# Altium footprint library Jump_254.PcbLib: 184 footprints (part 7 of 12)
Each footprint in its own frame and in the unit in brackets; x right, y up, seen from the top. Pads: shape width x height; smd on the part's side, far side on the other; paste and mask are expansions set on the pad; w line width, h text height; cw(c..) or ccw(c..) is an arc to the next point about the centre after c.
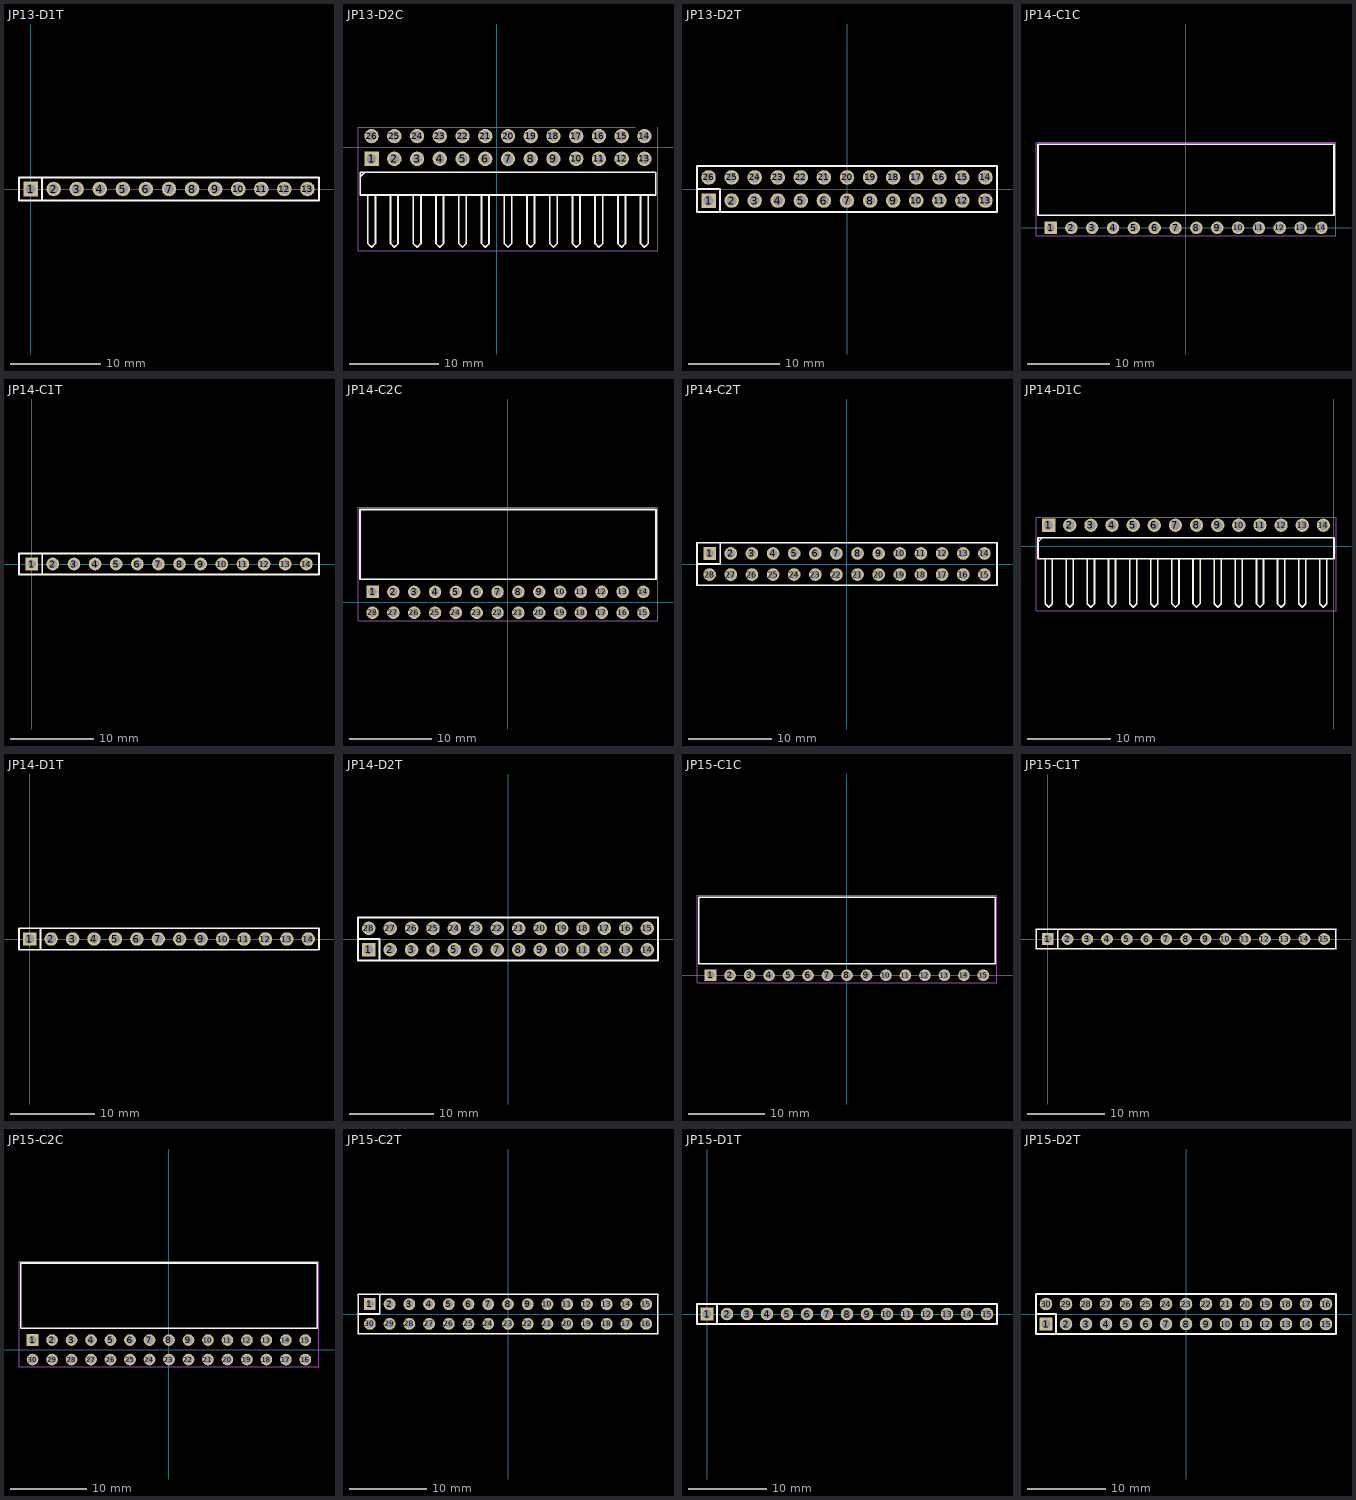
[diagram p6: the footprints below, top view; thin cyan lines are the x and y axes]

## JP13-D1T [mm] "13 pins, 1 row, straight, gold plating"
height 8.54
pads (13):
  rect 1.6x1.6 hole 1.1: 1(0,0)
  round 1.6 hole 1.1: 2(2.54,0) 3(5.08,0) 4(7.62,0) 5(10.16,0) 6(12.7,0) 7(15.24,0) 8(17.78,0) 9(20.32,0) 10(22.86,0) 11(25.4,0) 12(27.94,0) 13(30.48,0)
Top Overlay:
  lines w0.2: 1.27,-1.27 1.27,1.27 ; -1.27,-1.27 -1.27,1.27 0.635,1.27 31.75,1.27 31.75,-1.27 -1.27,-1.27
3D body "61301311121.stp": height 8.54, standoff -3, extent -1.27,-1.27 31.75,1.27

## JP13-D2C [mm] "26 pins, dual row, right angled, gold plating"
height 5.08
pads (26):
  rect 1.6x1.6 hole 1.1: 1(-13.97,-1.27)
  round 1.6 hole 1.1: 2(-11.43,-1.27) 3(-8.89,-1.27) 4(-6.35,-1.27) 5(-3.81,-1.27) 6(-1.27,-1.27) 7(1.27,-1.27) 8(3.81,-1.27) 9(6.35,-1.27) 10(8.89,-1.27) 11(11.43,-1.27) 12(13.97,-1.27) 13(16.51,-1.27) 14(16.51,1.27) 15(13.97,1.27) 16(11.43,1.27) 17(8.89,1.27) 18(6.35,1.27) 19(3.81,1.27) 20(1.27,1.27) 21(-1.27,1.27) 22(-3.81,1.27) 23(-6.35,1.27) 24(-8.89,1.27) 25(-11.43,1.27) 26(-13.97,1.27)
Top Overlay:
  lines w0.2: -15.198,-3.236 -14.774,-2.812 ; -14.393,-5.335 -14.393,-10.729 -13.97,-11.152 -13.547,-10.729 -13.547,-5.31 ; -11.853,-5.335 -11.853,-10.729 -11.43,-11.152 -11.007,-10.729 -11.007,-5.335 ; -9.313,-5.335 -9.313,-10.729 -8.89,-11.152 -8.467,-10.729 -8.467,-5.31 ; -6.773,-5.335 -6.773,-10.729 -6.35,-11.152 -5.927,-10.729 -5.927,-5.335 ; -4.233,-5.335 -4.233,-10.729 -3.81,-11.152 -3.387,-10.729 -3.387,-5.31 ; -1.693,-5.335 -1.693,-10.729 -1.27,-11.152 -0.847,-10.729 -0.847,-5.335 ; 0.847,-5.335 0.847,-10.729 1.27,-11.152 1.693,-10.729 1.693,-5.31 ; 3.387,-5.335 3.387,-10.729 3.81,-11.152 4.233,-10.729 4.233,-5.335 ; 5.927,-5.335 5.927,-10.729 6.35,-11.152 6.773,-10.729 6.773,-5.31 ; 8.467,-5.335 8.467,-10.729 8.89,-11.152 9.313,-10.729 9.313,-5.335 ; 11.007,-5.335 11.007,-10.729 11.43,-11.152 11.853,-10.729 11.853,-5.31 ; 13.547,-5.335 13.547,-10.729 13.97,-11.152 14.393,-10.729 14.393,-5.31 ; 16.087,-5.335 16.087,-10.729 16.51,-11.152 16.933,-10.729 16.933,-5.335 ; -15.24,-5.31 17.78,-5.31 17.78,-2.77 -15.24,-2.77 -15.24,-5.31
Mechanical 15:
  lines w0.1: 15.49,2.27 -15.49,2.27 -15.49,-11.55 18.03,-11.55 18.03,2.27
3D body "61302621021.stp": height 5.09, standoff -2.99, extent -15.26,-11.295 17.76,1.605

## JP13-D2T [mm] "26 pins, dual pin, straight, gold plating"
height 8.54
pads (26):
  rect 1.6x1.6 hole 1.1: 1(-15.24,-1.27)
  round 1.6 hole 1.1: 2(-12.7,-1.27) 3(-10.16,-1.27) 4(-7.62,-1.27) 5(-5.08,-1.27) 6(-2.54,-1.27) 7(0,-1.27) 8(2.54,-1.27) 9(5.08,-1.27) 10(7.62,-1.27) 11(10.16,-1.27) 12(12.7,-1.27) 13(15.24,-1.27) 14(15.24,1.27) 15(12.7,1.27) 16(10.16,1.27) 17(7.62,1.27) 18(5.08,1.27) 19(2.54,1.27) 20(0,1.27) 21(-2.54,1.27) 22(-5.08,1.27) 23(-7.62,1.27) 24(-10.16,1.27) 25(-12.7,1.27) 26(-15.24,1.27)
Top Overlay:
  lines w0.2: -16.51,0 -13.97,0 -13.97,-2.54 ; -16.51,-2.54 16.51,-2.54 16.51,2.54 -16.51,2.54 -16.51,-2.54
3D body "61302621121.stp": height 8.55, standoff -2.99, extent -16.51,-2.54 16.51,2.54

## JP14-C1C [mm] "14p 1 row Right angle"
height 2.5
pads (14):
  rect 1.52x1.52 hole 1.02: 1(-16.51,0)
  round 1.52 hole 1.02: 2(-13.97,0) 3(-11.43,0) 4(-8.89,0) 5(-6.35,0) 6(-3.81,0) 7(-1.27,0) 8(1.27,0) 9(3.81,0) 10(6.35,0) 11(8.89,0) 12(11.43,0) 13(13.97,0) 14(16.51,0)
Top Overlay:
  lines w0.2: -18.034,1.524 -18.034,10.173 18.034,10.173 18.034,1.524 -18.034,1.524
Mechanical 15:
  lines w0.1: -18.28,-0.96 -18.28,10.423 18.284,10.423 18.284,-0.96 -18.28,-0.96
3D body "613014143121.stp": height 2.51, standoff -3.08, extent -18.03,-0.208 18.03,10.092

## JP14-C1T [mm] "14 row, straight, gold plating"
height 8.5
pads (14):
  rect 1.52x1.52 hole 1.02: 1(0,0)
  round 1.52 hole 1.02: 2(2.54,0) 3(5.08,0) 4(7.62,0) 5(10.16,0) 6(12.7,0) 7(15.24,0) 8(17.78,0) 9(20.32,0) 10(22.86,0) 11(25.4,0) 12(27.94,0) 13(30.48,0) 14(33.02,0)
Top Overlay:
  lines w0.2: 1.27,-1.27 1.27,1.27 ; -1.52,-1.27 -1.52,1.27 0.635,1.27 34.54,1.27 34.54,-1.27 -1.52,-1.27
3D body "61301411821.stp": height 8.51, standoff -3.09, extent -1.52,-1.25 34.54,1.25

## JP14-C2C [mm] "28p 2 rows Right angle"
height 5.08
pads (28):
  rect 1.52x1.52 hole 1.02: 1(-16.51,1.27)
  round 1.52 hole 1.02: 2(-13.97,1.27) 3(-11.43,1.27) 4(-8.89,1.27) 5(-6.35,1.27) 6(-3.81,1.27) 7(-1.27,1.27) 8(1.27,1.27) 9(3.81,1.27) 10(6.35,1.27) 11(8.89,1.27) 12(11.43,1.27) 13(13.97,1.27) 14(16.51,1.27) 15(16.51,-1.27) 16(13.97,-1.27) 17(11.43,-1.27) 18(8.89,-1.27) 19(6.35,-1.27) 20(3.81,-1.27) 21(1.27,-1.27) 22(-1.27,-1.27) 23(-3.81,-1.27) 24(-6.35,-1.27) 25(-8.89,-1.27) 26(-11.43,-1.27) 27(-13.97,-1.27) 28(-16.51,-1.27)
Top Overlay:
  lines w0.2: -18.034,2.794 -18.034,11.316 18.034,11.316 18.034,2.794 -18.034,2.794
Mechanical 15:
  lines w0.1: -18.28,-2.23 -18.28,11.566 18.284,11.566 18.284,-2.23 -18.28,-2.23
3D body "613028243121.stp": height 5.09, standoff -4.46, extent -18.03,-1.478 18.03,11.362

## JP14-C2T [mm] "28 pins, dual row, straight, gold plating"
height 8.5
pads (28):
  rect 1.52x1.52 hole 1.02: 1(-16.51,1.27)
  round 1.52 hole 1.02: 2(-13.97,1.27) 3(-11.43,1.27) 4(-8.89,1.27) 5(-6.35,1.27) 6(-3.81,1.27) 7(-1.27,1.27) 8(1.27,1.27) 9(3.81,1.27) 10(6.35,1.27) 11(8.89,1.27) 12(11.43,1.27) 13(13.97,1.27) 14(16.51,1.27) 15(16.51,-1.27) 16(13.97,-1.27) 17(11.43,-1.27) 18(8.89,-1.27) 19(6.35,-1.27) 20(3.81,-1.27) 21(1.27,-1.27) 22(-1.27,-1.27) 23(-3.81,-1.27) 24(-6.35,-1.27) 25(-8.89,-1.27) 26(-11.43,-1.27) 27(-13.97,-1.27) 28(-16.51,-1.27)
Top Overlay:
  lines w0.2: -18.03,0 -15.24,0 -15.24,2.54 ; -18.03,-2.54 18.03,-2.54 18.03,2.54 -18.03,2.54 -18.03,-2.54
3D body "61302821821.stp": height 8.51, standoff -3.09, extent -18.03,-2.54 18.03,2.54

## JP14-D1C [mm] "14 pins, 1 row, right angled, gold plating"
height 2.54
pads (14):
  rect 1.6x1.6 hole 1.1: 1(-34.29,2.54)
  round 1.6 hole 1.1: 2(-31.75,2.54) 3(-29.21,2.54) 4(-26.67,2.54) 5(-24.13,2.54) 6(-21.59,2.54) 7(-19.05,2.54) 8(-16.51,2.54) 9(-13.97,2.54) 10(-11.43,2.54) 11(-8.89,2.54) 12(-6.35,2.54) 13(-3.81,2.54) 14(-1.27,2.54)
Top Overlay:
  lines w0.2: -35.518,0.574 -35.094,0.998 ; -34.713,-1.525 -34.713,-6.919 -34.29,-7.342 -33.867,-6.919 -33.867,-1.5 ; -32.173,-1.525 -32.173,-6.919 -31.75,-7.342 -31.327,-6.919 -31.327,-1.525 ; -29.633,-1.525 -29.633,-6.919 -29.21,-7.342 -28.787,-6.919 -28.787,-1.5 ; -27.093,-1.525 -27.093,-6.919 -26.67,-7.342 -26.247,-6.919 -26.247,-1.525 ; -24.553,-1.525 -24.553,-6.919 -24.13,-7.342 -23.707,-6.919 -23.707,-1.5 ; -22.013,-1.525 -22.013,-6.919 -21.59,-7.342 -21.167,-6.919 -21.167,-1.525 ; -19.473,-1.525 -19.473,-6.919 -19.05,-7.342 -18.627,-6.919 -18.627,-1.5 ; -16.933,-1.525 -16.933,-6.919 -16.51,-7.342 -16.087,-6.919 -16.087,-1.525 ; -14.393,-1.525 -14.393,-6.919 -13.97,-7.342 -13.547,-6.919 -13.547,-1.5 ; -11.853,-1.525 -11.853,-6.919 -11.43,-7.342 -11.007,-6.919 -11.007,-1.525 ; -9.313,-1.525 -9.313,-6.919 -8.89,-7.342 -8.467,-6.919 -8.467,-1.5 ; -6.773,-1.525 -6.773,-6.919 -6.35,-7.342 -5.927,-6.919 -5.927,-1.525 ; -4.233,-1.525 -4.233,-6.919 -3.81,-7.342 -3.387,-6.919 -3.387,-1.5 ; -1.693,-1.525 -1.693,-6.919 -1.27,-7.342 -0.847,-6.919 -0.847,-1.525 ; -35.56,-1.5 0,-1.5 0,1.04 -35.56,1.04 -35.56,-1.5
Mechanical 15:
  lines w0.1: -35.81,-7.75 -35.81,3.5 0.25,3.5 0.25,-7.75 -35.81,-7.75
3D body "61301411021.stp": height 2.55, standoff -2.99, extent -35.56,-7.524 0,2.836

## JP14-D1T [mm] "14 pins, 1 row, straight, gold plating"
height 8.54
pads (14):
  rect 1.6x1.6 hole 1.1: 1(0,0)
  round 1.6 hole 1.1: 2(2.54,0) 3(5.08,0) 4(7.62,0) 5(10.16,0) 6(12.7,0) 7(15.24,0) 8(17.78,0) 9(20.32,0) 10(22.86,0) 11(25.4,0) 12(27.94,0) 13(30.48,0) 14(33.02,0)
Top Overlay:
  lines w0.2: 1.27,-1.27 1.27,1.27 ; -1.27,-1.27 -1.27,1.27 0.635,1.27 34.29,1.27 34.29,-1.27 -1.27,-1.27
3D body "61301411121.stp": height 8.54, standoff -3, extent -1.27,-1.27 34.29,1.27

## JP14-D2T [mm] "28 pins, dual pin, straight, gold plating"
height 8.54
pads (28):
  rect 1.6x1.6 hole 1.1: 1(-16.51,-1.27)
  round 1.6 hole 1.1: 2(-13.97,-1.27) 3(-11.43,-1.27) 4(-8.89,-1.27) 5(-6.35,-1.27) 6(-3.81,-1.27) 7(-1.27,-1.27) 8(1.27,-1.27) 9(3.81,-1.27) 10(6.35,-1.27) 11(8.89,-1.27) 12(11.43,-1.27) 13(13.97,-1.27) 14(16.51,-1.27) 15(16.51,1.27) 16(13.97,1.27) 17(11.43,1.27) 18(8.89,1.27) 19(6.35,1.27) 20(3.81,1.27) 21(1.27,1.27) 22(-1.27,1.27) 23(-3.81,1.27) 24(-6.35,1.27) 25(-8.89,1.27) 26(-11.43,1.27) 27(-13.97,1.27) 28(-16.51,1.27)
Top Overlay:
  lines w0.2: -17.78,0 -15.24,0 -15.24,-2.54 ; -17.78,-2.54 17.78,-2.54 17.78,2.54 -17.78,2.54 -17.78,-2.54
3D body "61302821121.stp": height 8.55, standoff -2.99, extent -17.78,-2.54 17.78,2.54

## JP15-C1C [mm] "15p 1 row Right angle"
height 2.5
pads (15):
  rect 1.52x1.52 hole 1.02: 1(-17.78,0)
  round 1.52 hole 1.02: 2(-15.24,0) 3(-12.7,0) 4(-10.16,0) 5(-7.62,0) 6(-5.08,0) 7(-2.54,0) 8(0,0) 9(2.54,0) 10(5.08,0) 11(7.62,0) 12(10.16,0) 13(12.7,0) 14(15.24,0) 15(17.78,0)
Top Overlay:
  lines w0.2: -19.3,1.524 19.304,1.524 19.304,10.173 -19.3,10.173 -19.3,1.524
Mechanical 15:
  lines w0.1: -19.55,-0.96 -19.55,10.423 19.554,10.423 19.554,-0.96 -19.55,-0.96
3D body "613015143121.stp": height 2.51, standoff -3.08, extent -18.796,-0.208 19.304,10.092

## JP15-C1T [mm] "15 row, straight, gold plating"
height 8.5
pads (15):
  rect 1.52x1.52 hole 1.02: 1(0,0)
  round 1.52 hole 1.02: 2(2.54,0) 3(5.08,0) 4(7.62,0) 5(10.16,0) 6(12.7,0) 7(15.24,0) 8(17.78,0) 9(20.32,0) 10(22.86,0) 11(25.4,0) 12(27.94,0) 13(30.48,0) 14(33.02,0) 15(35.56,0)
Top Overlay:
  lines w0.2: -1.524,-1.27 37.084,-1.27 ; -1.524,1.27 0.635,1.27 37.084,1.27 ; -1.52,-1.27 -1.52,1.27 ; 1.27,-1.27 1.27,1.27 ; 37.08,-1.27 37.08,1.27
3D body "61301511821.stp": height 8.51, standoff -3.09, extent -1.524,-1.25 36.576,1.25

## JP15-C2C [mm] "30p 2 rows Right angle"
height 5.08
pads (30):
  rect 1.52x1.52 hole 1.02: 1(-17.78,1.27)
  round 1.52 hole 1.02: 2(-15.24,1.27) 3(-12.7,1.27) 4(-10.16,1.27) 5(-7.62,1.27) 6(-5.08,1.27) 7(-2.54,1.27) 8(0,1.27) 9(2.54,1.27) 10(5.08,1.27) 11(7.62,1.27) 12(10.16,1.27) 13(12.7,1.27) 14(15.24,1.27) 15(17.78,1.27) 16(17.78,-1.27) 17(15.24,-1.27) 18(12.7,-1.27) 19(10.16,-1.27) 20(7.62,-1.27) 21(5.08,-1.27) 22(2.54,-1.27) 23(0,-1.27) 24(-2.54,-1.27) 25(-5.08,-1.27) 26(-7.62,-1.27) 27(-10.16,-1.27) 28(-12.7,-1.27) 29(-15.24,-1.27) 30(-17.78,-1.27)
Top Overlay:
  lines w0.2: -19.304,2.794 -19.304,11.316 19.304,11.316 19.304,2.794 -19.304,2.794
Mechanical 15:
  lines w0.1: -19.55,-2.23 -19.55,11.566 19.554,11.566 19.554,-2.23 -19.55,-2.23
3D body "613030243121.stp": height 5.09, standoff -4.46, extent -19.3,-1.478 19.3,11.362

## JP15-C2T [mm] "30 pins, dual row, straight, gold plating"
height 8.5
pads (30):
  rect 1.52x1.52 hole 1.02: 1(-17.78,1.27)
  round 1.52 hole 1.02: 2(-15.24,1.27) 3(-12.7,1.27) 4(-10.16,1.27) 5(-7.62,1.27) 6(-5.08,1.27) 7(-2.54,1.27) 8(0,1.27) 9(2.54,1.27) 10(5.08,1.27) 11(7.62,1.27) 12(10.16,1.27) 13(12.7,1.27) 14(15.24,1.27) 15(17.78,1.27) 16(17.78,-1.27) 17(15.24,-1.27) 18(12.7,-1.27) 19(10.16,-1.27) 20(7.62,-1.27) 21(5.08,-1.27) 22(2.54,-1.27) 23(0,-1.27) 24(-2.54,-1.27) 25(-5.08,-1.27) 26(-7.62,-1.27) 27(-10.16,-1.27) 28(-12.7,-1.27) 29(-15.24,-1.27) 30(-17.78,-1.27)
Top Overlay:
  lines w0.2: -19.304,-2.54 19.304,-2.54 ; -19.304,0 -16.51,0 -16.51,2.54 ; -19.304,2.54 19.304,2.54 ; -19.3,-2.54 -19.3,2.54 ; 19.3,-2.54 19.3,2.54
3D body "61303021821.stp": height 8.51, standoff -3.09, extent -19.304,-2.54 18.796,2.54

## JP15-D1T [mm] "15  pins, 1 row, straight, gold plating"
height 8.54
pads (15):
  rect 1.6x1.6 hole 1.1: 1(0,0)
  round 1.6 hole 1.1: 2(2.54,0) 3(5.08,0) 4(7.62,0) 5(10.16,0) 6(12.7,0) 7(15.24,0) 8(17.78,0) 9(20.32,0) 10(22.86,0) 11(25.4,0) 12(27.94,0) 13(30.48,0) 14(33.02,0) 15(35.56,0)
Top Overlay:
  lines w0.2: 1.27,-1.27 1.27,1.27 ; -1.27,-1.27 36.83,-1.27 36.83,1.27 0.635,1.27 -1.27,1.27 -1.27,-1.27
3D body "61301511121.stp": height 8.54, standoff -3, extent -1.27,-1.27 36.83,1.27

## JP15-D2T [mm] "30 pins, dual pin, straight, gold plating"
height 8.54
pads (30):
  rect 1.6x1.6 hole 1.1: 1(-17.78,-1.27)
  round 1.6 hole 1.1: 2(-15.24,-1.27) 3(-12.7,-1.27) 4(-10.16,-1.27) 5(-7.62,-1.27) 6(-5.08,-1.27) 7(-2.54,-1.27) 8(0,-1.27) 9(2.54,-1.27) 10(5.08,-1.27) 11(7.62,-1.27) 12(10.16,-1.27) 13(12.7,-1.27) 14(15.24,-1.27) 15(17.78,-1.27) 16(17.78,1.27) 17(15.24,1.27) 18(12.7,1.27) 19(10.16,1.27) 20(7.62,1.27) 21(5.08,1.27) 22(2.54,1.27) 23(0,1.27) 24(-2.54,1.27) 25(-5.08,1.27) 26(-7.62,1.27) 27(-10.16,1.27) 28(-12.7,1.27) 29(-15.24,1.27) 30(-17.78,1.27)
Top Overlay:
  lines w0.2: -19.05,0 -16.51,0 -16.51,-2.54 ; -19.05,-2.54 -19.05,2.54 19.05,2.54 19.05,-2.54 -19.05,-2.54
3D body "61303021121.stp": height 8.55, standoff -2.99, extent -19.05,-2.54 19.05,2.54